# Altium footprint library Footprint.PcbLib: 2 footprints
Each footprint in its own frame and in the unit in brackets; x right, y up, seen from the top. Pads: shape width x height; smd on the part's side, far side on the other; paste and mask are expansions set on the pad; w line width, h text height; cw(c..) or ccw(c..) is an arc to the next point about the centre after c.
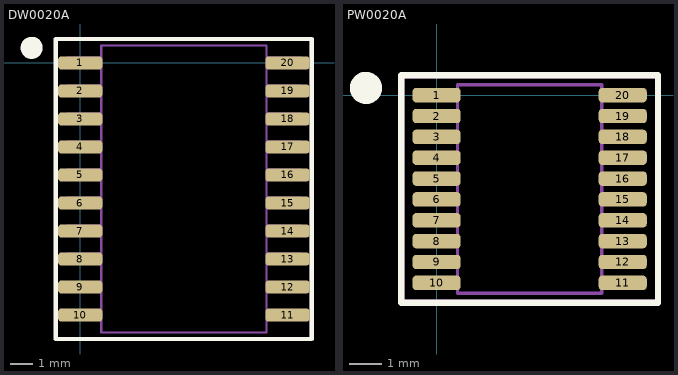
[diagram p0: the footprints below, top view; thin cyan lines are the x and y axes]

## DW0020A [mm] "SOIC, 20-Leads, Body 13.00x7.50 mm, IPC Medium Density"
height 2.65
pads (20):
  rrect50% 2x0.6 smd mask+0.05: 1(0,0) 2(0,-1.27) 3(0,-2.54) 4(0,-3.81) 5(0,-5.08) 6(0,-6.35) 7(0,-7.62) 8(0,-8.89) 9(0,-10.16) 10(0,-11.43) 11(9.398,-11.43) 12(9.398,-10.16) 13(9.398,-8.89) 14(9.398,-7.62) 15(9.398,-6.35) 16(9.398,-5.08) 17(9.398,-3.81) 18(9.398,-2.54) 19(9.398,-1.27) 20(9.398,0)
Top Overlay:
  circle w0.5: c-2.201,0.685 r0.25
  lines w0.2: -1.101,-12.515 10.499,-12.515 10.499,1.085 -1.101,1.085 -1.101,-12.515
Top Pattern:
  lines w0.1: 0.174,-11.645 0.174,-11.195 ; 0.174,-10.375 0.174,-9.925 ; 0.174,-9.105 0.174,-8.655 ; 0.174,-7.835 0.174,-7.385 ; 0.174,-6.565 0.174,-6.115 ; 0.174,-5.295 0.174,-4.845 ; 0.174,-4.025 0.174,-3.575 ; 0.174,-2.755 0.174,-2.305 ; 0.174,-1.485 0.174,-1.035 ; 0.174,-0.215 0.174,0.235 ; 0.949,-11.645 -0.601,-11.645 -0.601,-11.195 0.949,-11.195 ; 0.949,-10.375 -0.601,-10.375 -0.601,-9.925 0.949,-9.925 ; 0.949,-9.105 -0.601,-9.105 -0.601,-8.655 0.949,-8.655 ; 0.949,-7.835 -0.601,-7.835 -0.601,-7.385 0.949,-7.385 ; 0.949,-6.565 -0.601,-6.565 -0.601,-6.115 0.949,-6.115 ; 0.949,-5.295 -0.601,-5.295 -0.601,-4.845 0.949,-4.845 ; 0.949,-4.025 -0.601,-4.025 -0.601,-3.575 0.949,-3.575 ; 0.949,-2.755 -0.601,-2.755 -0.601,-2.305 0.949,-2.305 ; 0.949,-1.485 -0.601,-1.485 -0.601,-1.035 0.949,-1.035 ; 0.949,-0.215 -0.601,-0.215 -0.601,0.235 0.949,0.235 ; 8.449,-11.645 9.999,-11.645 9.999,-11.195 8.449,-11.195 ; 8.449,-10.375 9.999,-10.375 9.999,-9.925 8.449,-9.925 ; 8.449,-9.105 9.999,-9.105 9.999,-8.655 8.449,-8.655 ; 8.449,-7.835 9.999,-7.835 9.999,-7.385 8.449,-7.385 ; 8.449,-6.565 9.999,-6.565 9.999,-6.115 8.449,-6.115 ; 8.449,-5.295 9.999,-5.295 9.999,-4.845 8.449,-4.845 ; 8.449,-4.025 9.999,-4.025 9.999,-3.575 8.449,-3.575 ; 8.449,-2.755 9.999,-2.755 9.999,-2.305 8.449,-2.305 ; 8.449,-1.485 9.999,-1.485 9.999,-1.035 8.449,-1.035 ; 8.449,-0.215 9.999,-0.215 9.999,0.235 8.449,0.235 ; 9.224,-11.645 9.224,-11.195 ; 9.224,-10.375 9.224,-9.925 ; 9.224,-9.105 9.224,-8.655 ; 9.224,-7.835 9.224,-7.385 ; 9.224,-6.565 9.224,-6.115 ; 9.224,-5.295 9.224,-4.845 ; 9.224,-4.025 9.224,-3.575 ; 9.224,-2.755 9.224,-2.305 ; 9.224,-1.485 9.224,-1.035 ; 9.224,-0.215 9.224,0.235 ; 0.949,-12.215 8.449,-12.215 8.449,0.785 0.949,0.785 0.949,-12.215
  text ".Designator" at -1.201,1.585 h1.52
Courtyard:
  lines w0.1: -1.051,-12.465 10.449,-12.465 10.449,1.035 -1.051,1.035 -1.051,-12.465
3D body "DW0020A.step": height 2.65, standoff 0, extent -0.601,-12.215 9.999,0.785

## PW0020A [mm] "TSSOP, 20-Leads, Body 6.50x4.50 mm, IPC Medium Density"
height 1.2
pads (20):
  rrect50% 1.5x0.45 smd mask+0.03: 1(0,0) 2(0,-0.65) 3(0,-1.3) 4(0,-1.95) 5(0,-2.6) 6(0,-3.25) 7(0,-3.9) 8(0,-4.55) 9(0,-5.2) 10(0,-5.85) 11(5.8,-5.85) 12(5.8,-5.2) 13(5.8,-4.55) 14(5.8,-3.9) 15(5.8,-3.25) 16(5.8,-2.6) 17(5.8,-1.95) 18(5.8,-1.3) 19(5.8,-0.65) 20(5.8,0)
Top Overlay:
  circle w0.5: c-2.2,0.225 r0.25
  lines w0.2: -1.1,-6.475 -1.1,0.625 6.9,0.625 6.9,-6.475 -1.1,-6.475
Top Pattern:
  lines w0.1: 0.125,-6 0.125,-5.7 ; 0.125,-5.35 0.125,-5.05 ; 0.125,-4.7 0.125,-4.4 ; 0.125,-4.05 0.125,-3.75 ; 0.125,-3.4 0.125,-3.1 ; 0.125,-2.75 0.125,-2.45 ; 0.125,-2.1 0.125,-1.8 ; 0.125,-1.45 0.125,-1.15 ; 0.125,-0.8 0.125,-0.5 ; 0.125,-0.15 0.125,0.15 ; 0.65,-6 -0.4,-6 -0.4,-5.7 0.65,-5.7 ; 0.65,-5.35 -0.4,-5.35 -0.4,-5.05 0.65,-5.05 ; 0.65,-4.7 -0.4,-4.7 -0.4,-4.4 0.65,-4.4 ; 0.65,-4.05 -0.4,-4.05 -0.4,-3.75 0.65,-3.75 ; 0.65,-3.4 -0.4,-3.4 -0.4,-3.1 0.65,-3.1 ; 0.65,-2.75 -0.4,-2.75 -0.4,-2.45 0.65,-2.45 ; 0.65,-2.1 -0.4,-2.1 -0.4,-1.8 0.65,-1.8 ; 0.65,-1.45 -0.4,-1.45 -0.4,-1.15 0.65,-1.15 ; 0.65,-0.8 -0.4,-0.8 -0.4,-0.5 0.65,-0.5 ; 0.65,-0.15 -0.4,-0.15 -0.4,0.15 0.65,0.15 ; 5.15,-6 6.2,-6 6.2,-5.7 5.15,-5.7 ; 5.15,-5.35 6.2,-5.35 6.2,-5.05 5.15,-5.05 ; 5.15,-4.7 6.2,-4.7 6.2,-4.4 5.15,-4.4 ; 5.15,-4.05 6.2,-4.05 6.2,-3.75 5.15,-3.75 ; 5.15,-3.4 6.2,-3.4 6.2,-3.1 5.15,-3.1 ; 5.15,-2.75 6.2,-2.75 6.2,-2.45 5.15,-2.45 ; 5.15,-2.1 6.2,-2.1 6.2,-1.8 5.15,-1.8 ; 5.15,-1.45 6.2,-1.45 6.2,-1.15 5.15,-1.15 ; 5.15,-0.8 6.2,-0.8 6.2,-0.5 5.15,-0.5 ; 5.15,-0.15 6.2,-0.15 6.2,0.15 5.15,0.15 ; 5.675,-6 5.675,-5.7 ; 5.675,-5.35 5.675,-5.05 ; 5.675,-4.7 5.675,-4.4 ; 5.675,-4.05 5.675,-3.75 ; 5.675,-3.4 5.675,-3.1 ; 5.675,-2.75 5.675,-2.45 ; 5.675,-2.1 5.675,-1.8 ; 5.675,-1.45 5.675,-1.15 ; 5.675,-0.8 5.675,-0.5 ; 5.675,-0.15 5.675,0.15 ; 0.65,-6.175 0.65,0.325 5.15,0.325 5.15,-6.175 0.65,-6.175
  text ".Designator" at -1.2,1.175 h1.52
Courtyard:
  lines w0.1: -1.05,-6.425 -1.05,0.575 6.85,0.575 6.85,-6.425 -1.05,-6.425
3D body "PW0020A.step": height 1.2, standoff 0, extent -0.4,-6.175 6.2,0.325